# Altium schematic symbol library Connectors - Modular Jacks.SchLib: 8 symbols
Pins are listed as number, name and electrical type; pins without a type are passive.

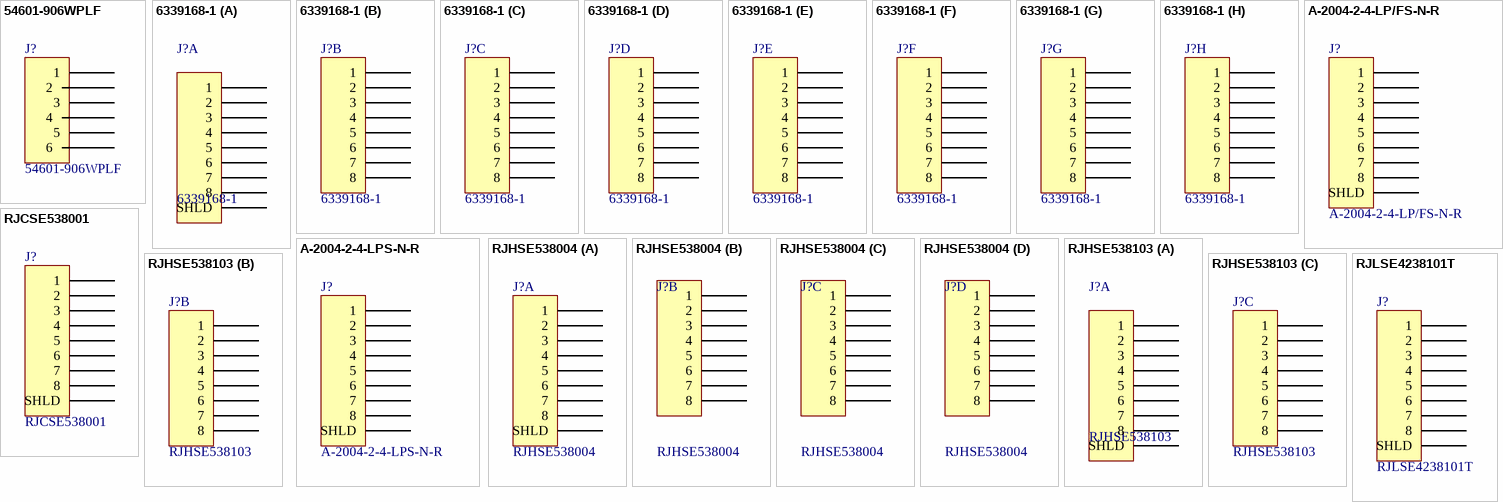
[diagram p0: symbols 54601-906WPLF to RJLSE4238101T]

## 54601-906WPLF
designator J?
CONN MOD JACK 6P6C R/A UNSHLD; Manufacturer: Amphenol ICC (FCI); LED Color: Does Not Contain LED; Number of Ports: 1; Number of Positions/Contacts: 6p6c (RJ11, RJ12, RJ14, RJ25); Ratings: Cat3; Shielding: Unshielded; Tab Direction: Down; Part Number: 54601-906WPLF; ComponentLink1Description: Datasheet; ComponentLink1URL: http://www.amphenol-icc.com/media/wysiwyg/files/drawing/c-bmj-0082.pdf; ComponentLink2Description: DigiKey Link; ComponentLink2URL: http://digikey.com/product-detail/en/amphenol-icc-fci/54601-906WPLF/609-4729-ND/4242891; Connector Type: Jack; Contact Finish: Gold; Contact Material: Copper Alloy; Features: Board Lock; LastUpdated: 6/25/2020 3:49:33 PM; Lifecycle Status: Active; Minimum Order: 1; Mounting Type: Through Hole; Number of Rows: 1; Orientation: 90° Angle (Right); Packaging: Unknown; Part Status: Active; Price: 0.42; Series: 54601; Supplier 1: DigiKey; Supplier Part Number 1: 609-4729-ND; Termination: Solder
footprint AMPHENOL ICC 54601-906WPLF
pins: 1, 2, 3, 4, 5, 6

## 6339168-1
designator J?
CONN MOD JACK 8P8C R/A SHIELDED; Manufacturer: TE Connectivity AMP Connectors; LED Color: Does Not Contain LED; Number of Ports: 8; Number of Positions/Contacts: 8p8c (RJ45, Ethernet); Ratings: Cat5; Shielding: Shielded, EMI Finger; Tab Direction: Up and Down; Part Number: 6339168-1; ComponentLink1Description: Datasheet; ComponentLink1URL: https://www.te.com/commerce/DocumentDelivery/DDEController?Action=srchrtrv&DocNm=6339168&DocType=Customer+Drawing&DocLang=English; ComponentLink2Description: DigiKey Link; ComponentLink2URL: http://digikey.com/product-detail/en/te-connectivity-amp-connectors/6339168-1/A115573-ND/2188194; Connector Type: Jack; Contact Finish: Gold; Contact Material: Phosphor Bronze; Features: Board Guide; LastUpdated: 1/15/2020 5:07:40 AM; Lifecycle Status: Active; Minimum Order: 1; Mounting Type: Through Hole; Number of Rows: 2; Orientation: 90° Angle (Right); Packaging: Tray; Part Status: Active; Price: 11.82; Series: -; Supplier 1: DigiKey; Supplier Part Number 1: A115573-ND; Termination: Solder
footprint TE 6339168-01-B
part A pins: A1 1, A2 2, A3 3, A4 4, A5 5, A6 6, A7 7, A8 8, S SHLD
part B pins: B1 1, B2 2, B3 3, B4 4, B5 5, B6 6, B7 7, B8 8
part C pins: C1 1, C2 2, C3 3, C4 4, C5 5, C6 6, C7 7, C8 8
part D pins: D1 1, D2 2, D3 3, D4 4, D5 5, D6 6, D7 7, D8 8
part E pins: E1 1, E2 2, E3 3, E4 4, E5 5, E6 6, E7 7, E8 8
part F pins: F1 1, F2 2, F3 3, F4 4, F5 5, F6 6, F7 7, F8 8
part G pins: G1 1, G2 2, G3 3, G4 4, G5 5, G6 6, G7 7, G8 8
part H pins: H1 1, H2 2, H3 3, H4 4, H5 5, H6 6, H7 7, H8 8

## A-2004-2-4-LP/FS-N-R
designator J?
CONN MOD JACK 8P8C R/A SHIELDED; Manufacturer: Assmann WSW Components; LED Color: Does Not Contain LED; Number of Ports: 1; Number of Positions/Contacts: 8p8c (RJ45, Ethernet); Tab Direction: Down; Part Number: A-2004-2-4-LP/FS-N-R; ComponentLink1Description: Datasheet; ComponentLink1URL: http://www.assmann-wsw.com/fileadmin/datasheets/ASS_7039_CO.pdf; ComponentLink2Description: DigiKey Link; ComponentLink2URL: http://digikey.com/product-detail/en/assmann-wsw-components/A-2004-2-4-LP-FS-N-R/AE10386-ND/2183637; Connector Type: Jack; Contact Finish: Gold; Contact Material: Phosphor Bronze; Features: Board Lock; LastUpdated: 1/15/2020 3:58:34 AM; Lifecycle Status: Active; Minimum Order: 1; Mounting Type: Through Hole; Number of Rows: 1; Orientation: 90° Angle (Right); Packaging: Tray; Part Status: Active; Price: 1.13; Series: -; Shielding: Shielded; Supplier 1: DigiKey; Supplier Part Number 1: AE10386-ND; Termination: Solder
footprint ASSMANN A-2004-2-4-LP_FS
pins: 1, 2, 3, 4, 5, 6, 7, 8, S SHLD

## A-2004-2-4-LPS-N-R
designator J?
CONN MOD JACK 8P8C R/A SHIELDED; Manufacturer: Assmann WSW Components; LED Color: Does Not Contain LED; Number of Ports: 1; Number of Positions/Contacts: 8p8c (RJ45, Ethernet); Tab Direction: Down; Part Number: A-2004-2-4-LPS-N-R; ComponentLink1Description: Datasheet; ComponentLink1URL: http://www.assmann-wsw.com/fileadmin/datasheets/ASS_7323_CO.pdf; ComponentLink2Description: DigiKey Link; ComponentLink2URL: http://digikey.com/product-detail/en/assmann-wsw-components/A-2004-2-4-LPS-N-R/AE10387-ND/2183638; Connector Type: Jack; Contact Finish: Gold; Contact Material: Phosphor Bronze; Features: Board Lock; LastUpdated: 1/15/2020 3:54:20 AM; Lifecycle Status: Active; Minimum Order: 1; Mounting Type: Through Hole; Number of Rows: 1; Orientation: 90° Angle (Right); Packaging: Tray; Part Status: Active; Price: 1.05; Series: -; Shielding: Shielded; Supplier 1: DigiKey; Supplier Part Number 1: AE10387-ND; Termination: Solder
footprint ASSMANN A-2004-2-4-LPS-N-R
pins: 1, 2, 3, 4, 5, 6, 7, 8, S SHLD

## RJCSE538001
designator J?
CONN MOD JACK 8P8C R/A SHIELDED; Manufacturer: Amphenol ICC (Commercial Products); LED Color: Does Not Contain LED; Number of Ports: 1; Number of Positions/Contacts: 8p8c (RJ45, Ethernet); Shielding: Shielded, EMI Finger; Tab Direction: Up; Part Number: RJCSE538001; ComponentLink1Description: Datasheet; ComponentLink1URL: https://cdn.amphenol-icc.com/media/wysiwyg/files/documentation/s6032c_rjhse.pdf; ComponentLink2Description: DigiKey Link; ComponentLink2URL: http://digikey.com/product-detail/en/amphenol-icc-commercial-products/RJCSE538001/RJCSE538001CT-ND/3659922; Connector Type: Jack; Contact Finish: Gold; Contact Material: Phosphor Bronze; Features: Board Guide, Solder Retention; LastUpdated: 1/15/2020 5:08:16 AM; Lifecycle Status: Active; Minimum Order: 1; Mounting Type: Surface Mount; Number of Rows: 1; Orientation: 90° Angle (Right); Packaging: TapeAndReel; Part Status: Active; Price: 1.13; Series: RJCSE; Supplier 1: DigiKey; Supplier Part Number 1: RJCSE538001CT-ND; Termination: Solder
footprint AMPHENOL RJCSE538001
pins: 1, 2, 3, 4, 5, 6, 7, 8, S SHLD

## RJHSE538004
designator J?
CONN MOD JACK 8P8C R/A SHIELDED; Manufacturer: Amphenol ICC (Commercial Products); LED Color: Does Not Contain LED; Number of Ports: 4; Number of Positions/Contacts: 8p8c (RJ45, Ethernet); Shielding: Shielded, EMI Finger; Tab Direction: Up; Part Number: RJHSE538004; ComponentLink1Description: Datasheet; ComponentLink1URL: https://cdn.amphenol-icc.com/media/wysiwyg/files/drawing/rjhse538x04.pdf; ComponentLink2Description: DigiKey Link; ComponentLink2URL: http://digikey.com/product-detail/en/amphenol-icc-commercial-products/RJHSE538004/RJHSE538004-ND/1979547; Connector Type: Jack; Contact Finish: Gold; Contact Material: Phosphor Bronze; Features: Board Lock; LastUpdated: 1/15/2020 4:01:48 AM; Lifecycle Status: Active; Minimum Order: 1; Mounting Type: Through Hole; Number of Rows: 1; Orientation: 90° Angle (Right); Packaging: Tray; Part Status: Active; Price: 4.37; Series: RJHSE; Supplier 1: DigiKey; Supplier Part Number 1: RJHSE538004-ND; Termination: Solder
footprint AMPHENOL RJHSE-5380-04
part A pins: A1 1, A2 2, A3 3, A4 4, A5 5, A6 6, A7 7, A8 8, S SHLD
part B pins: B1 1, B2 2, B3 3, B4 4, B5 5, B6 6, B7 7, B8 8
part C pins: C1 1, C2 2, C3 3, C4 4, C5 5, C6 6, C7 7, C8 8
part D pins: D1 1, D2 2, D3 3, D4 4, D5 5, D6 6, D7 7, D8 8

## RJHSE538103
designator J?
CONN MOD JACK 8P8C R/A SHIELDED; Manufacturer: Amphenol ICC (Commercial Products); LED Color: Yellow - Green; Number of Ports: 3; Number of Positions/Contacts: 8p8c (RJ45, Ethernet); Shielding: Shielded, EMI Finger; Tab Direction: Up; Part Number: RJHSE538103; ComponentLink1Description: Datasheet; ComponentLink1URL: https://www.amphenolcanada.com/productsearch/pdf/ACPRJHC07%20revc%20complete.pdf; ComponentLink2Description: DigiKey Link; ComponentLink2URL: http://digikey.com/product-detail/en/amphenol-icc-commercial-products/RJHSE538103/RJHSE538103-ND/3083554; Connector Type: Jack; Contact Finish: Gold; Contact Material: Phosphor Bronze; Features: Board Lock; LastUpdated: 1/15/2020 4:02:46 AM; Lifecycle Status: Active; Minimum Order: 1; Mounting Type: Through Hole; Number of Rows: 1; Orientation: 90° Angle (Right); Packaging: Tray; Part Status: Active; Price: 4.30; Series: RJHSE; Supplier 1: DigiKey; Supplier Part Number 1: RJHSE538103-ND; Termination: Solder
footprint AMPHENOL RJHSE-538X-03
part A pins: A1 1, A2 2, A3 3, A4 4, A5 5, A6 6, A7 7, A8 8, S SHLD
part B pins: B1 1, B2 2, B3 3, B4 4, B5 5, B6 6, B7 7, B8 8
part C pins: C1 1, C2 2, C3 3, C4 4, C5 5, C6 6, C7 7, C8 8

## RJLSE4238101T
designator J?
CONN MOD JACK 8P8C R/A SHIELDED; Manufacturer: Amphenol ICC (Commercial Products); LED Color: Does Not Contain LED; Number of Ports: 1; Number of Positions/Contacts: 8p8c (RJ45, Ethernet); Tab Direction: Down; Part Number: RJLSE4238101T; ComponentLink1Description: Datasheet; ComponentLink1URL: https://www.amphenolcanada.com/ProductSearch/pdf/RJLSE_BRO.pdf; ComponentLink2Description: DigiKey Link; ComponentLink2URL: http://digikey.com/product-detail/en/amphenol-icc-commercial-products/RJLSE4238101T/RJLSE4238101TCT-ND/1979566; Connector Type: Jack; Contact Finish: Gold; Contact Material: Phosphor Bronze; Features: Solder Retention; LastUpdated: 1/15/2020 4:03:26 AM; Lifecycle Status: Active; Minimum Order: 1; Mounting Type: Surface Mount; Number of Rows: 1; Orientation: 90° Angle (Right); Packaging: TapeAndReel; Part Status: Active; Price: 1.61; Series: RJLSE; Shielding: Shielded; Supplier 1: DigiKey; Supplier Part Number 1: RJLSE4238101TCT-ND; Termination: Solder
footprint AMPHENOL RJLSE4238101T
pins: 1, 2, 3, 4, 5, 6, 7, 8, S SHLD